# Altium footprint library TerminalBlock_RND.PcbLib: 132 footprints (part 2 of 9)
Each footprint in its own frame and in the unit in brackets; x right, y up, seen from the top. Pads: shape width x height; smd on the part's side, far side on the other; paste and mask are expansions set on the pad; w line width, h text height; cw(c..) or ccw(c..) is an arc to the next point about the centre after c.
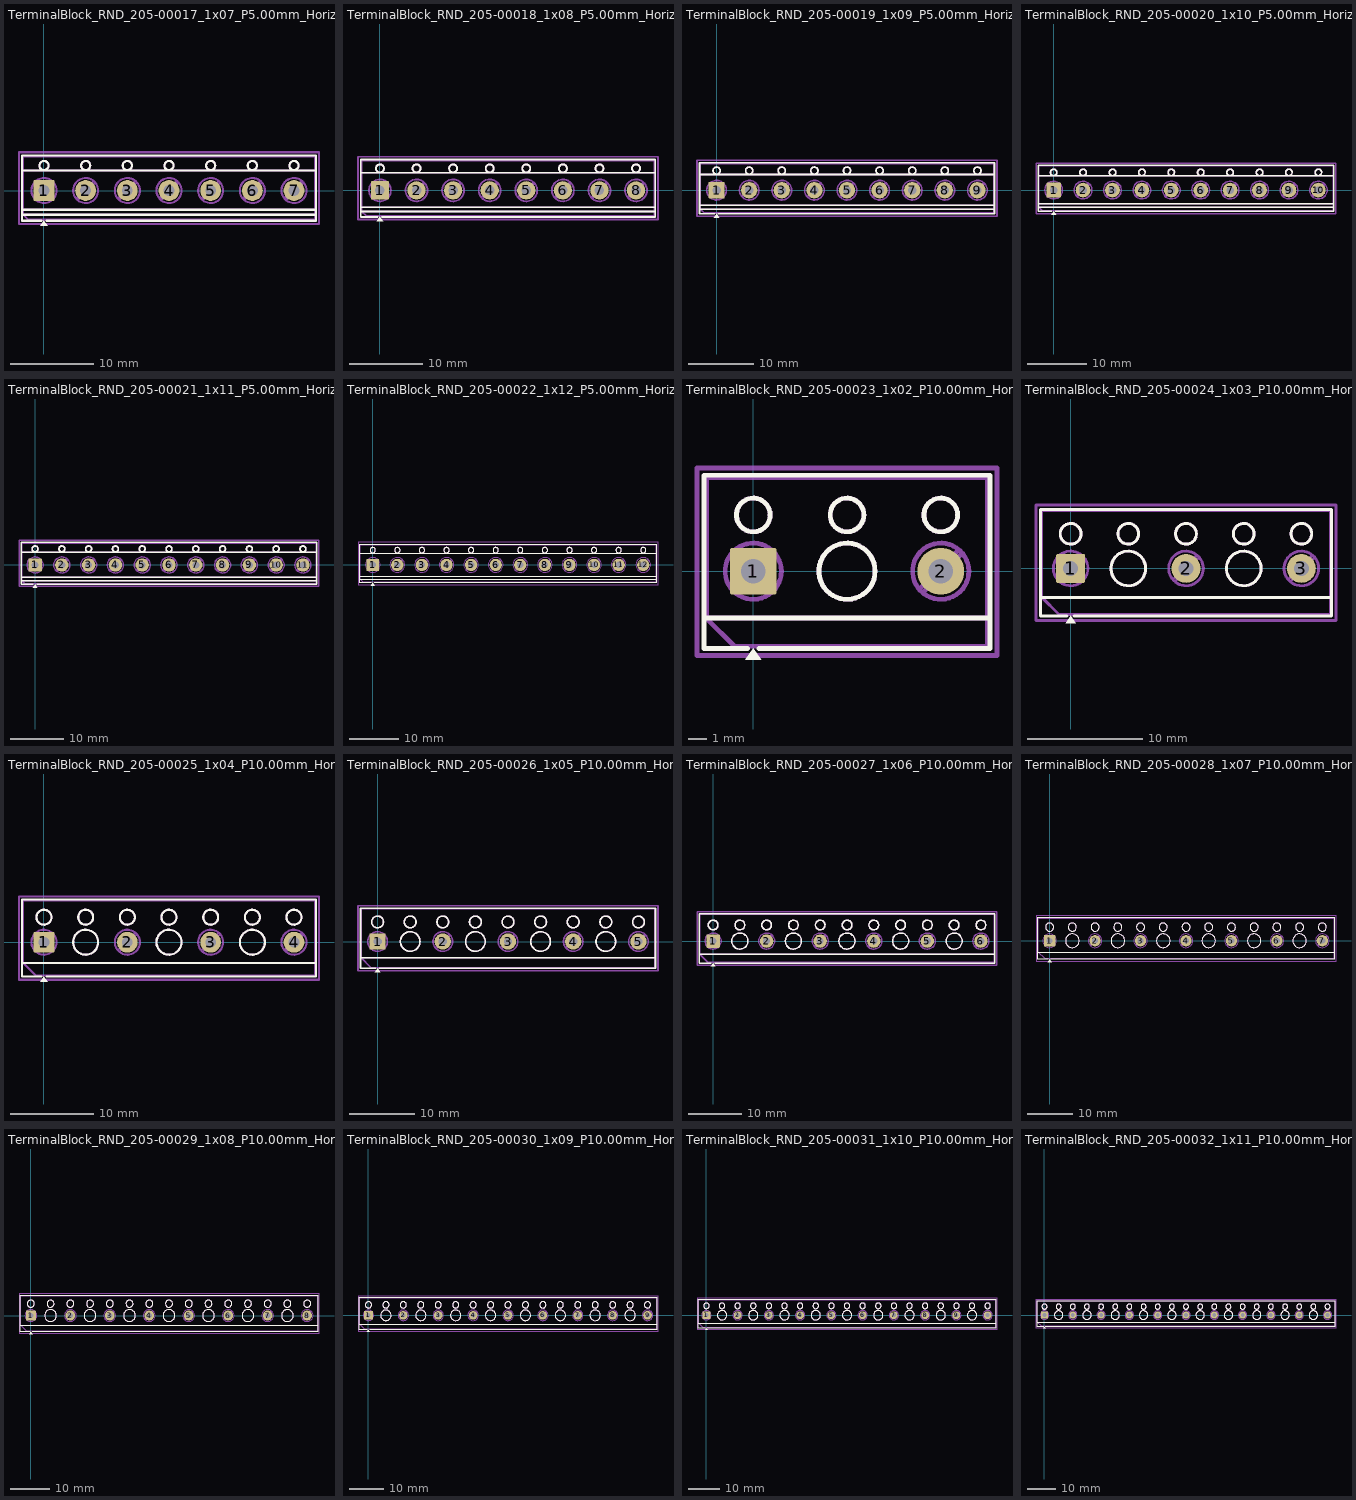
[diagram p1: the footprints below, top view; thin cyan lines are the x and y axes]

## TerminalBlock_RND_205-00017_1x07_P5.00mm_Horizontal [mm]
pads (7):
  rrect10% 2.5x2.5 hole 1.3: 1(0,0)
  round 2.5 hole 1.3: 2(5,0) 3(10,0) 4(15,0) 5(20,0) 6(25,0) 7(30,0)
F.SilkS:
  circle w0.254: c0,3 r0.55
  circle w0.254: c5,3 r0.55
  circle w0.254: c10,3 r0.55
  circle w0.254: c15,3 r0.55
  circle w0.254: c20,3 r0.55
  circle w0.254: c25,3 r0.55
  circle w0.254: c30,3 r0.55
  region: 0.44,-4.23 -0.44,-4.23 0,-3.62
  lines w0.254: -2.62,-2.9 32.62,-2.9 ; -2.62,-2.3 32.62,-2.3 ; -2.62,2.4 32.62,2.4 ; -0.3,-3.62 -2.62,-3.62 -2.62,4.22 32.62,4.22 32.62,-3.62 0.3,-3.62
F.Fab:
  circle w0.254: c0,3 r0.55
  circle w0.254: c0,0 r1.5
  circle w0.254: c5,3 r0.55
  circle w0.254: c5,0 r1.5
  circle w0.254: c10,3 r0.55
  circle w0.254: c10,0 r1.5
  circle w0.254: c15,3 r0.55
  circle w0.254: c15,0 r1.5
  circle w0.254: c20,3 r0.55
  circle w0.254: c20,0 r1.5
  circle w0.254: c25,3 r0.55
  circle w0.254: c25,0 r1.5
  circle w0.254: c30,3 r0.55
  circle w0.254: c30,0 r1.5
  lines w0.254: -2.5,-2.3 32.5,-2.3 ; -2.5,2.4 32.5,2.4 ; -1.138,-0.955 0.955,1.138 ; -0.955,-1.138 1.138,0.955 ; 3.862,-0.955 5.955,1.138 ; 4.045,-1.138 6.138,0.955 ; 8.862,-0.955 10.955,1.138 ; 9.045,-1.138 11.138,0.955 ; 13.862,-0.955 15.955,1.138 ; 14.045,-1.138 16.138,0.955 ; 18.862,-0.955 20.955,1.138 ; 19.045,-1.138 21.138,0.955 ; 23.862,-0.955 25.955,1.138 ; 24.045,-1.138 26.138,0.955 ; 28.862,-0.955 30.955,1.138 ; 29.045,-1.138 31.138,0.955 ; 32.5,-2.9 -2.5,-2.9 ; -2.5,-2.9 -2.5,4.1 32.5,4.1 32.5,-3.5 -1.9,-3.5 -2.5,-2.9
  text "'.Designator'" at 10.953,4.38 h1
F.CrtYd:
  lines w0.254: -3,-4 -3,4.6 33,4.6 33,-4 -3,-4

## TerminalBlock_RND_205-00018_1x08_P5.00mm_Horizontal [mm]
pads (8):
  rrect10% 2.5x2.5 hole 1.3: 1(0,0)
  round 2.5 hole 1.3: 2(5,0) 3(10,0) 4(15,0) 5(20,0) 6(25,0) 7(30,0) 8(35,0)
F.SilkS:
  circle w0.254: c0,3 r0.55
  circle w0.254: c5,3 r0.55
  circle w0.254: c10,3 r0.55
  circle w0.254: c15,3 r0.55
  circle w0.254: c20,3 r0.55
  circle w0.254: c25,3 r0.55
  circle w0.254: c30,3 r0.55
  circle w0.254: c35,3 r0.55
  region: 0.44,-4.23 -0.44,-4.23 0,-3.62
  lines w0.254: -2.62,-2.9 37.62,-2.9 ; -2.62,-2.3 37.62,-2.3 ; -2.62,2.4 37.62,2.4 ; -0.3,-3.62 -2.62,-3.62 -2.62,4.22 37.62,4.22 37.62,-3.62 0.3,-3.62
F.Fab:
  circle w0.254: c0,3 r0.55
  circle w0.254: c0,0 r1.5
  circle w0.254: c5,3 r0.55
  circle w0.254: c5,0 r1.5
  circle w0.254: c10,3 r0.55
  circle w0.254: c10,0 r1.5
  circle w0.254: c15,3 r0.55
  circle w0.254: c15,0 r1.5
  circle w0.254: c20,3 r0.55
  circle w0.254: c20,0 r1.5
  circle w0.254: c25,3 r0.55
  circle w0.254: c25,0 r1.5
  circle w0.254: c30,3 r0.55
  circle w0.254: c30,0 r1.5
  circle w0.254: c35,3 r0.55
  circle w0.254: c35,0 r1.5
  lines w0.254: -2.5,-2.3 37.5,-2.3 ; -2.5,2.4 37.5,2.4 ; -1.138,-0.955 0.955,1.138 ; -0.955,-1.138 1.138,0.955 ; 3.862,-0.955 5.955,1.138 ; 4.045,-1.138 6.138,0.955 ; 8.862,-0.955 10.955,1.138 ; 9.045,-1.138 11.138,0.955 ; 13.862,-0.955 15.955,1.138 ; 14.045,-1.138 16.138,0.955 ; 18.862,-0.955 20.955,1.138 ; 19.045,-1.138 21.138,0.955 ; 23.862,-0.955 25.955,1.138 ; 24.045,-1.138 26.138,0.955 ; 28.862,-0.955 30.955,1.138 ; 29.045,-1.138 31.138,0.955 ; 33.862,-0.955 35.955,1.138 ; 34.045,-1.138 36.138,0.955 ; 37.5,-2.9 -2.5,-2.9 ; -2.5,-2.9 -2.5,4.1 37.5,4.1 37.5,-3.5 -1.9,-3.5 -2.5,-2.9
  text "'.Designator'" at 13.453,4.38 h1
F.CrtYd:
  lines w0.254: -3,-4 -3,4.6 38,4.6 38,-4 -3,-4

## TerminalBlock_RND_205-00019_1x09_P5.00mm_Horizontal [mm]
pads (9):
  rrect10% 2.5x2.5 hole 1.3: 1(0,0)
  round 2.5 hole 1.3: 2(5,0) 3(10,0) 4(15,0) 5(20,0) 6(25,0) 7(30,0) 8(35,0) 9(40,0)
F.SilkS:
  circle w0.254: c0,3 r0.55
  circle w0.254: c5,3 r0.55
  circle w0.254: c10,3 r0.55
  circle w0.254: c15,3 r0.55
  circle w0.254: c20,3 r0.55
  circle w0.254: c25,3 r0.55
  circle w0.254: c30,3 r0.55
  circle w0.254: c35,3 r0.55
  circle w0.254: c40,3 r0.55
  region: 0.44,-4.23 -0.44,-4.23 0,-3.62
  lines w0.254: -2.62,-2.9 42.62,-2.9 ; -2.62,-2.3 42.62,-2.3 ; -2.62,2.4 42.62,2.4 ; -0.3,-3.62 -2.62,-3.62 -2.62,4.22 42.62,4.22 42.62,-3.62 0.3,-3.62
F.Fab:
  circle w0.254: c0,3 r0.55
  circle w0.254: c0,0 r1.5
  circle w0.254: c5,3 r0.55
  circle w0.254: c5,0 r1.5
  circle w0.254: c10,3 r0.55
  circle w0.254: c10,0 r1.5
  circle w0.254: c15,3 r0.55
  circle w0.254: c15,0 r1.5
  circle w0.254: c20,3 r0.55
  circle w0.254: c20,0 r1.5
  circle w0.254: c25,3 r0.55
  circle w0.254: c25,0 r1.5
  circle w0.254: c30,3 r0.55
  circle w0.254: c30,0 r1.5
  circle w0.254: c35,3 r0.55
  circle w0.254: c35,0 r1.5
  circle w0.254: c40,3 r0.55
  circle w0.254: c40,0 r1.5
  lines w0.254: -2.5,-2.3 42.5,-2.3 ; -2.5,2.4 42.5,2.4 ; -1.138,-0.955 0.955,1.138 ; -0.955,-1.138 1.138,0.955 ; 3.862,-0.955 5.955,1.138 ; 4.045,-1.138 6.138,0.955 ; 8.862,-0.955 10.955,1.138 ; 9.045,-1.138 11.138,0.955 ; 13.862,-0.955 15.955,1.138 ; 14.045,-1.138 16.138,0.955 ; 18.862,-0.955 20.955,1.138 ; 19.045,-1.138 21.138,0.955 ; 23.862,-0.955 25.955,1.138 ; 24.045,-1.138 26.138,0.955 ; 28.862,-0.955 30.955,1.138 ; 29.045,-1.138 31.138,0.955 ; 33.862,-0.955 35.955,1.138 ; 34.045,-1.138 36.138,0.955 ; 38.862,-0.955 40.955,1.138 ; 39.045,-1.138 41.138,0.955 ; 42.5,-2.9 -2.5,-2.9 ; -2.5,-2.9 -2.5,4.1 42.5,4.1 42.5,-3.5 -1.9,-3.5 -2.5,-2.9
  text "'.Designator'" at 15.953,4.38 h1
F.CrtYd:
  lines w0.254: -3,-4 -3,4.6 43,4.6 43,-4 -3,-4

## TerminalBlock_RND_205-00020_1x10_P5.00mm_Horizontal [mm]
pads (10):
  rrect10% 2.5x2.5 hole 1.3: 1(0,0)
  round 2.5 hole 1.3: 2(5,0) 3(10,0) 4(15,0) 5(20,0) 6(25,0) 7(30,0) 8(35,0) 9(40,0) 10(45,0)
F.SilkS:
  circle w0.254: c0,3 r0.55
  circle w0.254: c5,3 r0.55
  circle w0.254: c10,3 r0.55
  circle w0.254: c15,3 r0.55
  circle w0.254: c20,3 r0.55
  circle w0.254: c25,3 r0.55
  circle w0.254: c30,3 r0.55
  circle w0.254: c35,3 r0.55
  circle w0.254: c40,3 r0.55
  circle w0.254: c45,3 r0.55
  region: 0.44,-4.23 -0.44,-4.23 0,-3.62
  lines w0.254: -2.62,-2.9 47.62,-2.9 ; -2.62,-2.3 47.62,-2.3 ; -2.62,2.4 47.62,2.4 ; -0.3,-3.62 -2.62,-3.62 -2.62,4.22 47.62,4.22 47.62,-3.62 0.3,-3.62
F.Fab:
  circle w0.254: c0,3 r0.55
  circle w0.254: c0,0 r1.5
  circle w0.254: c5,3 r0.55
  circle w0.254: c5,0 r1.5
  circle w0.254: c10,3 r0.55
  circle w0.254: c10,0 r1.5
  circle w0.254: c15,3 r0.55
  circle w0.254: c15,0 r1.5
  circle w0.254: c20,3 r0.55
  circle w0.254: c20,0 r1.5
  circle w0.254: c25,3 r0.55
  circle w0.254: c25,0 r1.5
  circle w0.254: c30,3 r0.55
  circle w0.254: c30,0 r1.5
  circle w0.254: c35,3 r0.55
  circle w0.254: c35,0 r1.5
  circle w0.254: c40,3 r0.55
  circle w0.254: c40,0 r1.5
  circle w0.254: c45,3 r0.55
  circle w0.254: c45,0 r1.5
  lines w0.254: -2.5,-2.3 47.5,-2.3 ; -2.5,2.4 47.5,2.4 ; -1.138,-0.955 0.955,1.138 ; -0.955,-1.138 1.138,0.955 ; 3.862,-0.955 5.955,1.138 ; 4.045,-1.138 6.138,0.955 ; 8.862,-0.955 10.955,1.138 ; 9.045,-1.138 11.138,0.955 ; 13.862,-0.955 15.955,1.138 ; 14.045,-1.138 16.138,0.955 ; 18.862,-0.955 20.955,1.138 ; 19.045,-1.138 21.138,0.955 ; 23.862,-0.955 25.955,1.138 ; 24.045,-1.138 26.138,0.955 ; 28.862,-0.955 30.955,1.138 ; 29.045,-1.138 31.138,0.955 ; 33.862,-0.955 35.955,1.138 ; 34.045,-1.138 36.138,0.955 ; 38.862,-0.955 40.955,1.138 ; 39.045,-1.138 41.138,0.955 ; 43.862,-0.955 45.955,1.138 ; 44.045,-1.138 46.138,0.955 ; 47.5,-2.9 -2.5,-2.9 ; -2.5,-2.9 -2.5,4.1 47.5,4.1 47.5,-3.5 -1.9,-3.5 -2.5,-2.9
  text "'.Designator'" at 18.453,4.38 h1
F.CrtYd:
  lines w0.254: -3,-4 -3,4.6 48,4.6 48,-4 -3,-4

## TerminalBlock_RND_205-00021_1x11_P5.00mm_Horizontal [mm]
pads (11):
  rrect10% 2.5x2.5 hole 1.3: 1(0,0)
  round 2.5 hole 1.3: 2(5,0) 3(10,0) 4(15,0) 5(20,0) 6(25,0) 7(30,0) 8(35,0) 9(40,0) 10(45,0) 11(50,0)
F.SilkS:
  circle w0.254: c0,3 r0.55
  circle w0.254: c5,3 r0.55
  circle w0.254: c10,3 r0.55
  circle w0.254: c15,3 r0.55
  circle w0.254: c20,3 r0.55
  circle w0.254: c25,3 r0.55
  circle w0.254: c30,3 r0.55
  circle w0.254: c35,3 r0.55
  circle w0.254: c40,3 r0.55
  circle w0.254: c45,3 r0.55
  circle w0.254: c50,3 r0.55
  region: 0.44,-4.23 -0.44,-4.23 0,-3.62
  lines w0.254: -2.62,-2.9 52.62,-2.9 ; -2.62,-2.3 52.62,-2.3 ; -2.62,2.4 52.62,2.4 ; -0.3,-3.62 -2.62,-3.62 -2.62,4.22 52.62,4.22 52.62,-3.62 0.3,-3.62
F.Fab:
  circle w0.254: c0,3 r0.55
  circle w0.254: c0,0 r1.5
  circle w0.254: c5,3 r0.55
  circle w0.254: c5,0 r1.5
  circle w0.254: c10,3 r0.55
  circle w0.254: c10,0 r1.5
  circle w0.254: c15,3 r0.55
  circle w0.254: c15,0 r1.5
  circle w0.254: c20,3 r0.55
  circle w0.254: c20,0 r1.5
  circle w0.254: c25,3 r0.55
  circle w0.254: c25,0 r1.5
  circle w0.254: c30,3 r0.55
  circle w0.254: c30,0 r1.5
  circle w0.254: c35,3 r0.55
  circle w0.254: c35,0 r1.5
  circle w0.254: c40,3 r0.55
  circle w0.254: c40,0 r1.5
  circle w0.254: c45,3 r0.55
  circle w0.254: c45,0 r1.5
  circle w0.254: c50,3 r0.55
  circle w0.254: c50,0 r1.5
  lines w0.254: -2.5,-2.3 52.5,-2.3 ; -2.5,2.4 52.5,2.4 ; -1.138,-0.955 0.955,1.138 ; -0.955,-1.138 1.138,0.955 ; 3.862,-0.955 5.955,1.138 ; 4.045,-1.138 6.138,0.955 ; 8.862,-0.955 10.955,1.138 ; 9.045,-1.138 11.138,0.955 ; 13.862,-0.955 15.955,1.138 ; 14.045,-1.138 16.138,0.955 ; 18.862,-0.955 20.955,1.138 ; 19.045,-1.138 21.138,0.955 ; 23.862,-0.955 25.955,1.138 ; 24.045,-1.138 26.138,0.955 ; 28.862,-0.955 30.955,1.138 ; 29.045,-1.138 31.138,0.955 ; 33.862,-0.955 35.955,1.138 ; 34.045,-1.138 36.138,0.955 ; 38.862,-0.955 40.955,1.138 ; 39.045,-1.138 41.138,0.955 ; 43.862,-0.955 45.955,1.138 ; 44.045,-1.138 46.138,0.955 ; 48.862,-0.955 50.955,1.138 ; 49.045,-1.138 51.138,0.955 ; 52.5,-2.9 -2.5,-2.9 ; -2.5,-2.9 -2.5,4.1 52.5,4.1 52.5,-3.5 -1.9,-3.5 -2.5,-2.9
  text "'.Designator'" at 20.953,4.38 h1
F.CrtYd:
  lines w0.254: -3,-4 -3,4.6 53,4.6 53,-4 -3,-4

## TerminalBlock_RND_205-00022_1x12_P5.00mm_Horizontal [mm]
pads (12):
  rrect10% 2.5x2.5 hole 1.3: 1(0,0)
  round 2.5 hole 1.3: 2(5,0) 3(10,0) 4(15,0) 5(20,0) 6(25,0) 7(30,0) 8(35,0) 9(40,0) 10(45,0) 11(50,0) 12(55,0)
F.SilkS:
  circle w0.254: c0,3 r0.55
  circle w0.254: c5,3 r0.55
  circle w0.254: c10,3 r0.55
  circle w0.254: c15,3 r0.55
  circle w0.254: c20,3 r0.55
  circle w0.254: c25,3 r0.55
  circle w0.254: c30,3 r0.55
  circle w0.254: c35,3 r0.55
  circle w0.254: c40,3 r0.55
  circle w0.254: c45,3 r0.55
  circle w0.254: c50,3 r0.55
  circle w0.254: c55,3 r0.55
  region: 0.44,-4.23 -0.44,-4.23 0,-3.62
  lines w0.254: -2.62,-2.9 57.62,-2.9 ; -2.62,-2.3 57.62,-2.3 ; -2.62,2.4 57.62,2.4 ; -0.3,-3.62 -2.62,-3.62 -2.62,4.22 57.62,4.22 57.62,-3.62 0.3,-3.62
F.Fab:
  circle w0.254: c0,3 r0.55
  circle w0.254: c0,0 r1.5
  circle w0.254: c5,3 r0.55
  circle w0.254: c5,0 r1.5
  circle w0.254: c10,3 r0.55
  circle w0.254: c10,0 r1.5
  circle w0.254: c15,3 r0.55
  circle w0.254: c15,0 r1.5
  circle w0.254: c20,3 r0.55
  circle w0.254: c20,0 r1.5
  circle w0.254: c25,3 r0.55
  circle w0.254: c25,0 r1.5
  circle w0.254: c30,3 r0.55
  circle w0.254: c30,0 r1.5
  circle w0.254: c35,3 r0.55
  circle w0.254: c35,0 r1.5
  circle w0.254: c40,3 r0.55
  circle w0.254: c40,0 r1.5
  circle w0.254: c45,3 r0.55
  circle w0.254: c45,0 r1.5
  circle w0.254: c50,3 r0.55
  circle w0.254: c50,0 r1.5
  circle w0.254: c55,3 r0.55
  circle w0.254: c55,0 r1.5
  lines w0.254: -2.5,-2.3 57.5,-2.3 ; -2.5,2.4 57.5,2.4 ; -1.138,-0.955 0.955,1.138 ; -0.955,-1.138 1.138,0.955 ; 3.862,-0.955 5.955,1.138 ; 4.045,-1.138 6.138,0.955 ; 8.862,-0.955 10.955,1.138 ; 9.045,-1.138 11.138,0.955 ; 13.862,-0.955 15.955,1.138 ; 14.045,-1.138 16.138,0.955 ; 18.862,-0.955 20.955,1.138 ; 19.045,-1.138 21.138,0.955 ; 23.862,-0.955 25.955,1.138 ; 24.045,-1.138 26.138,0.955 ; 28.862,-0.955 30.955,1.138 ; 29.045,-1.138 31.138,0.955 ; 33.862,-0.955 35.955,1.138 ; 34.045,-1.138 36.138,0.955 ; 38.862,-0.955 40.955,1.138 ; 39.045,-1.138 41.138,0.955 ; 43.862,-0.955 45.955,1.138 ; 44.045,-1.138 46.138,0.955 ; 48.862,-0.955 50.955,1.138 ; 49.045,-1.138 51.138,0.955 ; 53.862,-0.955 55.955,1.138 ; 54.045,-1.138 56.138,0.955 ; 57.5,-2.9 -2.5,-2.9 ; -2.5,-2.9 -2.5,4.1 57.5,4.1 57.5,-3.5 -1.9,-3.5 -2.5,-2.9
  text "'.Designator'" at 23.453,4.38 h1
F.CrtYd:
  lines w0.254: -3,-4 -3,4.6 58,4.6 58,-4 -3,-4

## TerminalBlock_RND_205-00023_1x02_P10.00mm_Horizontal [mm]
pads (2):
  rrect10% 2.5x2.5 hole 1.3: 1(0,0)
  round 2.5 hole 1.3: 2(10,0)
F.SilkS:
  circle w0.254: c0,3 r0.9
  circle w0.254: c5,3 r0.9
  circle w0.254: c5,0 r1.5
  circle w0.254: c10,3 r0.9
  region: 0.44,-4.73 -0.44,-4.73 0,-4.12
  lines w0.254: -2.62,-2.5 12.62,-2.5 ; -0.3,-4.12 -2.62,-4.12 -2.62,5.12 12.62,5.12 12.62,-4.12 0.3,-4.12
F.Fab:
  circle w0.254: c0,3 r0.9
  circle w0.254: c0,0 r1.5
  circle w0.254: c5,3 r0.9
  circle w0.254: c5,0 r1.5
  circle w0.254: c10,3 r0.9
  circle w0.254: c10,0 r1.5
  lines w0.254: -1.138,-0.955 0.955,1.138 ; -0.955,-1.138 1.138,0.955 ; 8.862,-0.955 10.955,1.138 ; 9.045,-1.138 11.138,0.955 ; 12.5,-2.5 -2.5,-2.5 ; -2.5,-2.5 -2.5,5 12.5,5 12.5,-4 -1,-4 -2.5,-2.5
  text "'.Designator'" at 0.953,-4.14 h1
F.CrtYd:
  lines w0.254: -3,-4.5 -3,5.5 13,5.5 13,-4.5 -3,-4.5

## TerminalBlock_RND_205-00024_1x03_P10.00mm_Horizontal [mm]
pads (3):
  rrect10% 2.5x2.5 hole 1.3: 1(0,0)
  round 2.5 hole 1.3: 2(10,0) 3(20,0)
F.SilkS:
  circle w0.254: c0,3 r0.9
  circle w0.254: c5,3 r0.9
  circle w0.254: c5,0 r1.5
  circle w0.254: c10,3 r0.9
  circle w0.254: c15,3 r0.9
  circle w0.254: c15,0 r1.5
  circle w0.254: c20,3 r0.9
  region: 0.44,-4.73 -0.44,-4.73 0,-4.12
  lines w0.254: -2.62,-2.5 22.62,-2.5 ; -0.3,-4.12 -2.62,-4.12 -2.62,5.12 22.62,5.12 22.62,-4.12 0.3,-4.12
F.Fab:
  circle w0.254: c0,3 r0.9
  circle w0.254: c0,0 r1.5
  circle w0.254: c5,3 r0.9
  circle w0.254: c5,0 r1.5
  circle w0.254: c10,3 r0.9
  circle w0.254: c10,0 r1.5
  circle w0.254: c15,3 r0.9
  circle w0.254: c15,0 r1.5
  circle w0.254: c20,3 r0.9
  circle w0.254: c20,0 r1.5
  lines w0.254: -1.138,-0.955 0.955,1.138 ; -0.955,-1.138 1.138,0.955 ; 8.862,-0.955 10.955,1.138 ; 9.045,-1.138 11.138,0.955 ; 18.862,-0.955 20.955,1.138 ; 19.045,-1.138 21.138,0.955 ; 22.5,-2.5 -2.5,-2.5 ; -2.5,-2.5 -2.5,5 22.5,5 22.5,-4 -1,-4 -2.5,-2.5
  text "'.Designator'" at 5.953,-4.14 h1
F.CrtYd:
  lines w0.254: -3,-4.5 -3,5.5 23,5.5 23,-4.5 -3,-4.5

## TerminalBlock_RND_205-00025_1x04_P10.00mm_Horizontal [mm]
pads (4):
  rrect10% 2.5x2.5 hole 1.3: 1(0,0)
  round 2.5 hole 1.3: 2(10,0) 3(20,0) 4(30,0)
F.SilkS:
  circle w0.254: c0,3 r0.9
  circle w0.254: c5,3 r0.9
  circle w0.254: c5,0 r1.5
  circle w0.254: c10,3 r0.9
  circle w0.254: c15,3 r0.9
  circle w0.254: c15,0 r1.5
  circle w0.254: c20,3 r0.9
  circle w0.254: c25,3 r0.9
  circle w0.254: c25,0 r1.5
  circle w0.254: c30,3 r0.9
  region: 0.44,-4.73 -0.44,-4.73 0,-4.12
  lines w0.254: -2.62,-2.5 32.62,-2.5 ; -0.3,-4.12 -2.62,-4.12 -2.62,5.12 32.62,5.12 32.62,-4.12 0.3,-4.12
F.Fab:
  circle w0.254: c0,3 r0.9
  circle w0.254: c0,0 r1.5
  circle w0.254: c5,3 r0.9
  circle w0.254: c5,0 r1.5
  circle w0.254: c10,3 r0.9
  circle w0.254: c10,0 r1.5
  circle w0.254: c15,3 r0.9
  circle w0.254: c15,0 r1.5
  circle w0.254: c20,3 r0.9
  circle w0.254: c20,0 r1.5
  circle w0.254: c25,3 r0.9
  circle w0.254: c25,0 r1.5
  circle w0.254: c30,3 r0.9
  circle w0.254: c30,0 r1.5
  lines w0.254: -1.138,-0.955 0.955,1.138 ; -0.955,-1.138 1.138,0.955 ; 8.862,-0.955 10.955,1.138 ; 9.045,-1.138 11.138,0.955 ; 18.862,-0.955 20.955,1.138 ; 19.045,-1.138 21.138,0.955 ; 28.862,-0.955 30.955,1.138 ; 29.045,-1.138 31.138,0.955 ; 32.5,-2.5 -2.5,-2.5 ; -2.5,-2.5 -2.5,5 32.5,5 32.5,-4 -1,-4 -2.5,-2.5
  text "'.Designator'" at 10.953,-4.14 h1
F.CrtYd:
  lines w0.254: -3,-4.5 -3,5.5 33,5.5 33,-4.5 -3,-4.5

## TerminalBlock_RND_205-00026_1x05_P10.00mm_Horizontal [mm]
pads (5):
  rrect10% 2.5x2.5 hole 1.3: 1(0,0)
  round 2.5 hole 1.3: 2(10,0) 3(20,0) 4(30,0) 5(40,0)
F.SilkS:
  circle w0.254: c0,3 r0.9
  circle w0.254: c5,3 r0.9
  circle w0.254: c5,0 r1.5
  circle w0.254: c10,3 r0.9
  circle w0.254: c15,3 r0.9
  circle w0.254: c15,0 r1.5
  circle w0.254: c20,3 r0.9
  circle w0.254: c25,3 r0.9
  circle w0.254: c25,0 r1.5
  circle w0.254: c30,3 r0.9
  circle w0.254: c35,3 r0.9
  circle w0.254: c35,0 r1.5
  circle w0.254: c40,3 r0.9
  region: 0.44,-4.73 -0.44,-4.73 0,-4.12
  lines w0.254: -2.62,-2.5 42.62,-2.5 ; -0.3,-4.12 -2.62,-4.12 -2.62,5.12 42.62,5.12 42.62,-4.12 0.3,-4.12
F.Fab:
  circle w0.254: c0,3 r0.9
  circle w0.254: c0,0 r1.5
  circle w0.254: c5,3 r0.9
  circle w0.254: c5,0 r1.5
  circle w0.254: c10,3 r0.9
  circle w0.254: c10,0 r1.5
  circle w0.254: c15,3 r0.9
  circle w0.254: c15,0 r1.5
  circle w0.254: c20,3 r0.9
  circle w0.254: c20,0 r1.5
  circle w0.254: c25,3 r0.9
  circle w0.254: c25,0 r1.5
  circle w0.254: c30,3 r0.9
  circle w0.254: c30,0 r1.5
  circle w0.254: c35,3 r0.9
  circle w0.254: c35,0 r1.5
  circle w0.254: c40,3 r0.9
  circle w0.254: c40,0 r1.5
  lines w0.254: -1.138,-0.955 0.955,1.138 ; -0.955,-1.138 1.138,0.955 ; 8.862,-0.955 10.955,1.138 ; 9.045,-1.138 11.138,0.955 ; 18.862,-0.955 20.955,1.138 ; 19.045,-1.138 21.138,0.955 ; 28.862,-0.955 30.955,1.138 ; 29.045,-1.138 31.138,0.955 ; 38.862,-0.955 40.955,1.138 ; 39.045,-1.138 41.138,0.955 ; 42.5,-2.5 -2.5,-2.5 ; -2.5,-2.5 -2.5,5 42.5,5 42.5,-4 -1,-4 -2.5,-2.5
  text "'.Designator'" at 15.953,-4.14 h1
F.CrtYd:
  lines w0.254: -3,-4.5 -3,5.5 43,5.5 43,-4.5 -3,-4.5

## TerminalBlock_RND_205-00027_1x06_P10.00mm_Horizontal [mm]
pads (6):
  rrect10% 2.5x2.5 hole 1.3: 1(0,0)
  round 2.5 hole 1.3: 2(10,0) 3(20,0) 4(30,0) 5(40,0) 6(50,0)
F.SilkS:
  circle w0.254: c0,3 r0.9
  circle w0.254: c5,3 r0.9
  circle w0.254: c5,0 r1.5
  circle w0.254: c10,3 r0.9
  circle w0.254: c15,3 r0.9
  circle w0.254: c15,0 r1.5
  circle w0.254: c20,3 r0.9
  circle w0.254: c25,3 r0.9
  circle w0.254: c25,0 r1.5
  circle w0.254: c30,3 r0.9
  circle w0.254: c35,3 r0.9
  circle w0.254: c35,0 r1.5
  circle w0.254: c40,3 r0.9
  circle w0.254: c45,3 r0.9
  circle w0.254: c45,0 r1.5
  circle w0.254: c50,3 r0.9
  region: 0.44,-4.73 -0.44,-4.73 0,-4.12
  lines w0.254: -2.62,-2.5 52.62,-2.5 ; -0.3,-4.12 -2.62,-4.12 -2.62,5.12 52.62,5.12 52.62,-4.12 0.3,-4.12
F.Fab:
  circle w0.254: c0,3 r0.9
  circle w0.254: c0,0 r1.5
  circle w0.254: c5,3 r0.9
  circle w0.254: c5,0 r1.5
  circle w0.254: c10,3 r0.9
  circle w0.254: c10,0 r1.5
  circle w0.254: c15,3 r0.9
  circle w0.254: c15,0 r1.5
  circle w0.254: c20,3 r0.9
  circle w0.254: c20,0 r1.5
  circle w0.254: c25,3 r0.9
  circle w0.254: c25,0 r1.5
  circle w0.254: c30,3 r0.9
  circle w0.254: c30,0 r1.5
  circle w0.254: c35,3 r0.9
  circle w0.254: c35,0 r1.5
  circle w0.254: c40,3 r0.9
  circle w0.254: c40,0 r1.5
  circle w0.254: c45,3 r0.9
  circle w0.254: c45,0 r1.5
  circle w0.254: c50,3 r0.9
  circle w0.254: c50,0 r1.5
  lines w0.254: -1.138,-0.955 0.955,1.138 ; -0.955,-1.138 1.138,0.955 ; 8.862,-0.955 10.955,1.138 ; 9.045,-1.138 11.138,0.955 ; 18.862,-0.955 20.955,1.138 ; 19.045,-1.138 21.138,0.955 ; 28.862,-0.955 30.955,1.138 ; 29.045,-1.138 31.138,0.955 ; 38.862,-0.955 40.955,1.138 ; 39.045,-1.138 41.138,0.955 ; 48.862,-0.955 50.955,1.138 ; 49.045,-1.138 51.138,0.955 ; 52.5,-2.5 -2.5,-2.5 ; -2.5,-2.5 -2.5,5 52.5,5 52.5,-4 -1,-4 -2.5,-2.5
  text "'.Designator'" at 20.953,-4.14 h1
F.CrtYd:
  lines w0.254: -3,-4.5 -3,5.5 53,5.5 53,-4.5 -3,-4.5

## TerminalBlock_RND_205-00028_1x07_P10.00mm_Horizontal [mm]
pads (7):
  rrect10% 2.5x2.5 hole 1.3: 1(0,0)
  round 2.5 hole 1.3: 2(10,0) 3(20,0) 4(30,0) 5(40,0) 6(50,0) 7(60,0)
F.SilkS:
  circle w0.254: c0,3 r0.9
  circle w0.254: c5,3 r0.9
  circle w0.254: c5,0 r1.5
  circle w0.254: c10,3 r0.9
  circle w0.254: c15,3 r0.9
  circle w0.254: c15,0 r1.5
  circle w0.254: c20,3 r0.9
  circle w0.254: c25,3 r0.9
  circle w0.254: c25,0 r1.5
  circle w0.254: c30,3 r0.9
  circle w0.254: c35,3 r0.9
  circle w0.254: c35,0 r1.5
  circle w0.254: c40,3 r0.9
  circle w0.254: c45,3 r0.9
  circle w0.254: c45,0 r1.5
  circle w0.254: c50,3 r0.9
  circle w0.254: c55,3 r0.9
  circle w0.254: c55,0 r1.5
  circle w0.254: c60,3 r0.9
  region: 0.44,-4.73 -0.44,-4.73 0,-4.12
  lines w0.254: -2.62,-2.5 62.62,-2.5 ; -0.3,-4.12 -2.62,-4.12 -2.62,5.12 62.62,5.12 62.62,-4.12 0.3,-4.12
F.Fab:
  circle w0.254: c0,3 r0.9
  circle w0.254: c0,0 r1.5
  circle w0.254: c5,3 r0.9
  circle w0.254: c5,0 r1.5
  circle w0.254: c10,3 r0.9
  circle w0.254: c10,0 r1.5
  circle w0.254: c15,3 r0.9
  circle w0.254: c15,0 r1.5
  circle w0.254: c20,3 r0.9
  circle w0.254: c20,0 r1.5
  circle w0.254: c25,3 r0.9
  circle w0.254: c25,0 r1.5
  circle w0.254: c30,3 r0.9
  circle w0.254: c30,0 r1.5
  circle w0.254: c35,3 r0.9
  circle w0.254: c35,0 r1.5
  circle w0.254: c40,3 r0.9
  circle w0.254: c40,0 r1.5
  circle w0.254: c45,3 r0.9
  circle w0.254: c45,0 r1.5
  circle w0.254: c50,3 r0.9
  circle w0.254: c50,0 r1.5
  circle w0.254: c55,3 r0.9
  circle w0.254: c55,0 r1.5
  circle w0.254: c60,3 r0.9
  circle w0.254: c60,0 r1.5
  lines w0.254: -1.138,-0.955 0.955,1.138 ; -0.955,-1.138 1.138,0.955 ; 8.862,-0.955 10.955,1.138 ; 9.045,-1.138 11.138,0.955 ; 18.862,-0.955 20.955,1.138 ; 19.045,-1.138 21.138,0.955 ; 28.862,-0.955 30.955,1.138 ; 29.045,-1.138 31.138,0.955 ; 38.862,-0.955 40.955,1.138 ; 39.045,-1.138 41.138,0.955 ; 48.862,-0.955 50.955,1.138 ; 49.045,-1.138 51.138,0.955 ; 58.862,-0.955 60.955,1.138 ; 59.045,-1.138 61.138,0.955 ; 62.5,-2.5 -2.5,-2.5 ; -2.5,-2.5 -2.5,5 62.5,5 62.5,-4 -1,-4 -2.5,-2.5
  text "'.Designator'" at 25.953,-4.14 h1
F.CrtYd:
  lines w0.254: -3,-4.5 -3,5.5 63,5.5 63,-4.5 -3,-4.5

## TerminalBlock_RND_205-00029_1x08_P10.00mm_Horizontal [mm]
pads (8):
  rrect10% 2.5x2.5 hole 1.3: 1(0,0)
  round 2.5 hole 1.3: 2(10,0) 3(20,0) 4(30,0) 5(40,0) 6(50,0) 7(60,0) 8(70,0)
F.SilkS:
  circle w0.254: c0,3 r0.9
  circle w0.254: c5,3 r0.9
  circle w0.254: c5,0 r1.5
  circle w0.254: c10,3 r0.9
  circle w0.254: c15,3 r0.9
  circle w0.254: c15,0 r1.5
  circle w0.254: c20,3 r0.9
  circle w0.254: c25,3 r0.9
  circle w0.254: c25,0 r1.5
  circle w0.254: c30,3 r0.9
  circle w0.254: c35,3 r0.9
  circle w0.254: c35,0 r1.5
  circle w0.254: c40,3 r0.9
  circle w0.254: c45,3 r0.9
  circle w0.254: c45,0 r1.5
  circle w0.254: c50,3 r0.9
  circle w0.254: c55,3 r0.9
  circle w0.254: c55,0 r1.5
  circle w0.254: c60,3 r0.9
  circle w0.254: c65,3 r0.9
  circle w0.254: c65,0 r1.5
  circle w0.254: c70,3 r0.9
  region: 0.44,-4.73 -0.44,-4.73 0,-4.12
  lines w0.254: -2.62,-2.5 72.62,-2.5 ; -0.3,-4.12 -2.62,-4.12 -2.62,5.12 72.62,5.12 72.62,-4.12 0.3,-4.12
F.Fab:
  circle w0.254: c0,3 r0.9
  circle w0.254: c0,0 r1.5
  circle w0.254: c5,3 r0.9
  circle w0.254: c5,0 r1.5
  circle w0.254: c10,3 r0.9
  circle w0.254: c10,0 r1.5
  circle w0.254: c15,3 r0.9
  circle w0.254: c15,0 r1.5
  circle w0.254: c20,3 r0.9
  circle w0.254: c20,0 r1.5
  circle w0.254: c25,3 r0.9
  circle w0.254: c25,0 r1.5
  circle w0.254: c30,3 r0.9
  circle w0.254: c30,0 r1.5
  circle w0.254: c35,3 r0.9
  circle w0.254: c35,0 r1.5
  circle w0.254: c40,3 r0.9
  circle w0.254: c40,0 r1.5
  circle w0.254: c45,3 r0.9
  circle w0.254: c45,0 r1.5
  circle w0.254: c50,3 r0.9
  circle w0.254: c50,0 r1.5
  circle w0.254: c55,3 r0.9
  circle w0.254: c55,0 r1.5
  circle w0.254: c60,3 r0.9
  circle w0.254: c60,0 r1.5
  circle w0.254: c65,3 r0.9
  circle w0.254: c65,0 r1.5
  circle w0.254: c70,3 r0.9
  circle w0.254: c70,0 r1.5
  lines w0.254: -1.138,-0.955 0.955,1.138 ; -0.955,-1.138 1.138,0.955 ; 8.862,-0.955 10.955,1.138 ; 9.045,-1.138 11.138,0.955 ; 18.862,-0.955 20.955,1.138 ; 19.045,-1.138 21.138,0.955 ; 28.862,-0.955 30.955,1.138 ; 29.045,-1.138 31.138,0.955 ; 38.862,-0.955 40.955,1.138 ; 39.045,-1.138 41.138,0.955 ; 48.862,-0.955 50.955,1.138 ; 49.045,-1.138 51.138,0.955 ; 58.862,-0.955 60.955,1.138 ; 59.045,-1.138 61.138,0.955 ; 68.862,-0.955 70.955,1.138 ; 69.045,-1.138 71.138,0.955 ; 72.5,-2.5 -2.5,-2.5 ; -2.5,-2.5 -2.5,5 72.5,5 72.5,-4 -1,-4 -2.5,-2.5
  text "'.Designator'" at 30.953,-4.14 h1
F.CrtYd:
  lines w0.254: -3,-4.5 -3,5.5 73,5.5 73,-4.5 -3,-4.5

## TerminalBlock_RND_205-00030_1x09_P10.00mm_Horizontal [mm]
pads (9):
  rrect10% 2.5x2.5 hole 1.3: 1(0,0)
  round 2.5 hole 1.3: 2(10,0) 3(20,0) 4(30,0) 5(40,0) 6(50,0) 7(60,0) 8(70,0) 9(80,0)
F.SilkS:
  circle w0.254: c0,3 r0.9
  circle w0.254: c5,3 r0.9
  circle w0.254: c5,0 r1.5
  circle w0.254: c10,3 r0.9
  circle w0.254: c15,3 r0.9
  circle w0.254: c15,0 r1.5
  circle w0.254: c20,3 r0.9
  circle w0.254: c25,3 r0.9
  circle w0.254: c25,0 r1.5
  circle w0.254: c30,3 r0.9
  circle w0.254: c35,3 r0.9
  circle w0.254: c35,0 r1.5
  circle w0.254: c40,3 r0.9
  circle w0.254: c45,3 r0.9
  circle w0.254: c45,0 r1.5
  circle w0.254: c50,3 r0.9
  circle w0.254: c55,3 r0.9
  circle w0.254: c55,0 r1.5
  circle w0.254: c60,3 r0.9
  circle w0.254: c65,3 r0.9
  circle w0.254: c65,0 r1.5
  circle w0.254: c70,3 r0.9
  circle w0.254: c75,3 r0.9
  circle w0.254: c75,0 r1.5
  circle w0.254: c80,3 r0.9
  region: 0.44,-4.73 -0.44,-4.73 0,-4.12
  lines w0.254: -2.62,-2.5 82.62,-2.5 ; -0.3,-4.12 -2.62,-4.12 -2.62,5.12 82.62,5.12 82.62,-4.12 0.3,-4.12
F.Fab:
  circle w0.254: c0,3 r0.9
  circle w0.254: c0,0 r1.5
  circle w0.254: c5,3 r0.9
  circle w0.254: c5,0 r1.5
  circle w0.254: c10,3 r0.9
  circle w0.254: c10,0 r1.5
  circle w0.254: c15,3 r0.9
  circle w0.254: c15,0 r1.5
  circle w0.254: c20,3 r0.9
  circle w0.254: c20,0 r1.5
  circle w0.254: c25,3 r0.9
  circle w0.254: c25,0 r1.5
  circle w0.254: c30,3 r0.9
  circle w0.254: c30,0 r1.5
  circle w0.254: c35,3 r0.9
  circle w0.254: c35,0 r1.5
  circle w0.254: c40,3 r0.9
  circle w0.254: c40,0 r1.5
  circle w0.254: c45,3 r0.9
  circle w0.254: c45,0 r1.5
  circle w0.254: c50,3 r0.9
  circle w0.254: c50,0 r1.5
  circle w0.254: c55,3 r0.9
  circle w0.254: c55,0 r1.5
  circle w0.254: c60,3 r0.9
  circle w0.254: c60,0 r1.5
  circle w0.254: c65,3 r0.9
  circle w0.254: c65,0 r1.5
  circle w0.254: c70,3 r0.9
  circle w0.254: c70,0 r1.5
  circle w0.254: c75,3 r0.9
  circle w0.254: c75,0 r1.5
  circle w0.254: c80,3 r0.9
  circle w0.254: c80,0 r1.5
  lines w0.254: -1.138,-0.955 0.955,1.138 ; -0.955,-1.138 1.138,0.955 ; 8.862,-0.955 10.955,1.138 ; 9.045,-1.138 11.138,0.955 ; 18.862,-0.955 20.955,1.138 ; 19.045,-1.138 21.138,0.955 ; 28.862,-0.955 30.955,1.138 ; 29.045,-1.138 31.138,0.955 ; 38.862,-0.955 40.955,1.138 ; 39.045,-1.138 41.138,0.955 ; 48.862,-0.955 50.955,1.138 ; 49.045,-1.138 51.138,0.955 ; 58.862,-0.955 60.955,1.138 ; 59.045,-1.138 61.138,0.955 ; 68.862,-0.955 70.955,1.138 ; 69.045,-1.138 71.138,0.955 ; 78.862,-0.955 80.955,1.138 ; 79.045,-1.138 81.138,0.955 ; 82.5,-2.5 -2.5,-2.5 ; -2.5,-2.5 -2.5,5 82.5,5 82.5,-4 -1,-4 -2.5,-2.5
  text "'.Designator'" at 35.953,-4.14 h1
F.CrtYd:
  lines w0.254: -3,-4.5 -3,5.5 83,5.5 83,-4.5 -3,-4.5

## TerminalBlock_RND_205-00031_1x10_P10.00mm_Horizontal [mm]
pads (10):
  rrect10% 2.5x2.5 hole 1.3: 1(0,0)
  round 2.5 hole 1.3: 2(10,0) 3(20,0) 4(30,0) 5(40,0) 6(50,0) 7(60,0) 8(70,0) 9(80,0) 10(90,0)
F.SilkS:
  circle w0.254: c0,3 r0.9
  circle w0.254: c5,3 r0.9
  circle w0.254: c5,0 r1.5
  circle w0.254: c10,3 r0.9
  circle w0.254: c15,3 r0.9
  circle w0.254: c15,0 r1.5
  circle w0.254: c20,3 r0.9
  circle w0.254: c25,3 r0.9
  circle w0.254: c25,0 r1.5
  circle w0.254: c30,3 r0.9
  circle w0.254: c35,3 r0.9
  circle w0.254: c35,0 r1.5
  circle w0.254: c40,3 r0.9
  circle w0.254: c45,3 r0.9
  circle w0.254: c45,0 r1.5
  circle w0.254: c50,3 r0.9
  circle w0.254: c55,3 r0.9
  circle w0.254: c55,0 r1.5
  circle w0.254: c60,3 r0.9
  circle w0.254: c65,3 r0.9
  circle w0.254: c65,0 r1.5
  circle w0.254: c70,3 r0.9
  circle w0.254: c75,3 r0.9
  circle w0.254: c75,0 r1.5
  circle w0.254: c80,3 r0.9
  circle w0.254: c85,3 r0.9
  circle w0.254: c85,0 r1.5
  circle w0.254: c90,3 r0.9
  region: 0.44,-4.73 -0.44,-4.73 0,-4.12
  lines w0.254: -2.62,-2.5 92.62,-2.5 ; -0.3,-4.12 -2.62,-4.12 -2.62,5.12 92.62,5.12 92.62,-4.12 0.3,-4.12
F.Fab:
  circle w0.254: c0,3 r0.9
  circle w0.254: c0,0 r1.5
  circle w0.254: c5,3 r0.9
  circle w0.254: c5,0 r1.5
  circle w0.254: c10,3 r0.9
  circle w0.254: c10,0 r1.5
  circle w0.254: c15,3 r0.9
  circle w0.254: c15,0 r1.5
  circle w0.254: c20,3 r0.9
  circle w0.254: c20,0 r1.5
  circle w0.254: c25,3 r0.9
  circle w0.254: c25,0 r1.5
  circle w0.254: c30,3 r0.9
  circle w0.254: c30,0 r1.5
  circle w0.254: c35,3 r0.9
  circle w0.254: c35,0 r1.5
  circle w0.254: c40,3 r0.9
  circle w0.254: c40,0 r1.5
  circle w0.254: c45,3 r0.9
  circle w0.254: c45,0 r1.5
  circle w0.254: c50,3 r0.9
  circle w0.254: c50,0 r1.5
  circle w0.254: c55,3 r0.9
  circle w0.254: c55,0 r1.5
  circle w0.254: c60,3 r0.9
  circle w0.254: c60,0 r1.5
  circle w0.254: c65,3 r0.9
  circle w0.254: c65,0 r1.5
  circle w0.254: c70,3 r0.9
  circle w0.254: c70,0 r1.5
  circle w0.254: c75,3 r0.9
  circle w0.254: c75,0 r1.5
  circle w0.254: c80,3 r0.9
  circle w0.254: c80,0 r1.5
  circle w0.254: c85,3 r0.9
  circle w0.254: c85,0 r1.5
  circle w0.254: c90,3 r0.9
  circle w0.254: c90,0 r1.5
  lines w0.254: -1.138,-0.955 0.955,1.138 ; -0.955,-1.138 1.138,0.955 ; 8.862,-0.955 10.955,1.138 ; 9.045,-1.138 11.138,0.955 ; 18.862,-0.955 20.955,1.138 ; 19.045,-1.138 21.138,0.955 ; 28.862,-0.955 30.955,1.138 ; 29.045,-1.138 31.138,0.955 ; 38.862,-0.955 40.955,1.138 ; 39.045,-1.138 41.138,0.955 ; 48.862,-0.955 50.955,1.138 ; 49.045,-1.138 51.138,0.955 ; 58.862,-0.955 60.955,1.138 ; 59.045,-1.138 61.138,0.955 ; 68.862,-0.955 70.955,1.138 ; 69.045,-1.138 71.138,0.955 ; 78.862,-0.955 80.955,1.138 ; 79.045,-1.138 81.138,0.955 ; 88.862,-0.955 90.955,1.138 ; 89.045,-1.138 91.138,0.955 ; 92.5,-2.5 -2.5,-2.5 ; -2.5,-2.5 -2.5,5 92.5,5 92.5,-4 -1,-4 -2.5,-2.5
  text "'.Designator'" at 40.953,-4.14 h1
F.CrtYd:
  lines w0.254: -3,-4.5 -3,5.5 93,5.5 93,-4.5 -3,-4.5

## TerminalBlock_RND_205-00032_1x11_P10.00mm_Horizontal [mm]
pads (11):
  rrect10% 2.5x2.5 hole 1.3: 1(0,0)
  round 2.5 hole 1.3: 2(10,0) 3(20,0) 4(30,0) 5(40,0) 6(50,0) 7(60,0) 8(70,0) 9(80,0) 10(90,0) 11(100,0)
F.SilkS:
  circle w0.254: c0,3 r0.9
  circle w0.254: c5,3 r0.9
  circle w0.254: c5,0 r1.5
  circle w0.254: c10,3 r0.9
  circle w0.254: c15,3 r0.9
  circle w0.254: c15,0 r1.5
  circle w0.254: c20,3 r0.9
  circle w0.254: c25,3 r0.9
  circle w0.254: c25,0 r1.5
  circle w0.254: c30,3 r0.9
  circle w0.254: c35,3 r0.9
  circle w0.254: c35,0 r1.5
  circle w0.254: c40,3 r0.9
  circle w0.254: c45,3 r0.9
  circle w0.254: c45,0 r1.5
  circle w0.254: c50,3 r0.9
  circle w0.254: c55,3 r0.9
  circle w0.254: c55,0 r1.5
  circle w0.254: c60,3 r0.9
  circle w0.254: c65,3 r0.9
  circle w0.254: c65,0 r1.5
  circle w0.254: c70,3 r0.9
  circle w0.254: c75,3 r0.9
  circle w0.254: c75,0 r1.5
  circle w0.254: c80,3 r0.9
  circle w0.254: c85,3 r0.9
  circle w0.254: c85,0 r1.5
  circle w0.254: c90,3 r0.9
  circle w0.254: c95,3 r0.9
  circle w0.254: c95,0 r1.5
  circle w0.254: c100,3 r0.9
  region: 0.44,-4.73 -0.44,-4.73 0,-4.12
  lines w0.254: -2.62,-2.5 102.62,-2.5 ; -0.3,-4.12 -2.62,-4.12 -2.62,5.12 102.62,5.12 102.62,-4.12 0.3,-4.12
F.Fab:
  circle w0.254: c0,3 r0.9
  circle w0.254: c0,0 r1.5
  circle w0.254: c5,3 r0.9
  circle w0.254: c5,0 r1.5
  circle w0.254: c10,3 r0.9
  circle w0.254: c10,0 r1.5
  circle w0.254: c15,3 r0.9
  circle w0.254: c15,0 r1.5
  circle w0.254: c20,3 r0.9
  circle w0.254: c20,0 r1.5
  circle w0.254: c25,3 r0.9
  circle w0.254: c25,0 r1.5
  circle w0.254: c30,3 r0.9
  circle w0.254: c30,0 r1.5
  circle w0.254: c35,3 r0.9
  circle w0.254: c35,0 r1.5
  circle w0.254: c40,3 r0.9
  circle w0.254: c40,0 r1.5
  circle w0.254: c45,3 r0.9
  circle w0.254: c45,0 r1.5
  circle w0.254: c50,3 r0.9
  circle w0.254: c50,0 r1.5
  circle w0.254: c55,3 r0.9
  circle w0.254: c55,0 r1.5
  circle w0.254: c60,3 r0.9
  circle w0.254: c60,0 r1.5
  circle w0.254: c65,3 r0.9
  circle w0.254: c65,0 r1.5
  circle w0.254: c70,3 r0.9
  circle w0.254: c70,0 r1.5
  circle w0.254: c75,3 r0.9
  circle w0.254: c75,0 r1.5
  circle w0.254: c80,3 r0.9
  circle w0.254: c80,0 r1.5
  circle w0.254: c85,3 r0.9
  circle w0.254: c85,0 r1.5
  circle w0.254: c90,3 r0.9
  circle w0.254: c90,0 r1.5
  circle w0.254: c95,3 r0.9
  circle w0.254: c95,0 r1.5
  circle w0.254: c100,3 r0.9
  circle w0.254: c100,0 r1.5
  lines w0.254: -1.138,-0.955 0.955,1.138 ; -0.955,-1.138 1.138,0.955 ; 8.862,-0.955 10.955,1.138 ; 9.045,-1.138 11.138,0.955 ; 18.862,-0.955 20.955,1.138 ; 19.045,-1.138 21.138,0.955 ; 28.862,-0.955 30.955,1.138 ; 29.045,-1.138 31.138,0.955 ; 38.862,-0.955 40.955,1.138 ; 39.045,-1.138 41.138,0.955 ; 48.862,-0.955 50.955,1.138 ; 49.045,-1.138 51.138,0.955 ; 58.862,-0.955 60.955,1.138 ; 59.045,-1.138 61.138,0.955 ; 68.862,-0.955 70.955,1.138 ; 69.045,-1.138 71.138,0.955 ; 78.862,-0.955 80.955,1.138 ; 79.045,-1.138 81.138,0.955 ; 88.862,-0.955 90.955,1.138 ; 89.045,-1.138 91.138,0.955 ; 98.862,-0.955 100.955,1.138 ; 99.045,-1.138 101.138,0.955 ; 102.5,-2.5 -2.5,-2.5 ; -2.5,-2.5 -2.5,5 102.5,5 102.5,-4 -1,-4 -2.5,-2.5
  text "'.Designator'" at 45.953,-4.14 h1
F.CrtYd:
  lines w0.254: -3,-4.5 -3,5.5 103,5.5 103,-4.5 -3,-4.5